# Altium integrated library Molex_Nano-Fit_Series.IntLib: 1 symbol
Pins are listed as number, name and electrical type; pins without a type are passive.

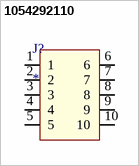
[diagram p0: symbol 1054292110]

## 1054292110
designator J?
NANO-FIT HDR SMT VT DLR 10CKT TI; Manufacturer 1: Molex; Manufacturer Part Number 1: 105429-2110; Supplier 1: Digi-Key; Stock 1: 900; Pricing 1: 1=2.92000, 10=2.79900, 100=2.33270 (USD)
footprint 1054292110
pins: 1, 2, 3, 4, 5, 6, 7, 8, 9, 10